# EAGLE library part ATTINY806 (library innove-microcontrollers)
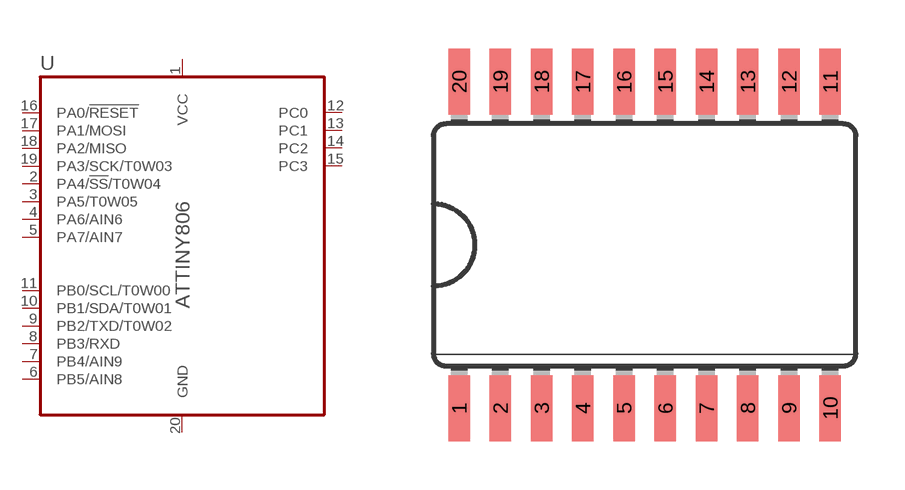
[diagram p9: symbol with the pads of SO20L; footprint SO20L]

Designator prefix U

## ATTINY806-SF  [SO20L]
1  VCC  pwr
2  PA4/!SS!/T0W04
3  PA5/T0W05
4  PA6/AIN6
5  PA7/AIN7
6  PB5/AIN8
7  PB4/AIN9
8  PB3/RXD
9  PB2/TXD/T0W02
10  PB1/SDA/T0W01
11  PB0/SCL/T0W00
12  PC0
13  PC1
14  PC2
15  PC3
16  PA0/!RESET
17  PA1/MOSI
18  PA2/MISO
19  PA3/SCK/T0W03
20  GND  pwr

## Footprint SO20L (pad centres in mm)
Small Outline Package
smd 0.66 x 2.032: 1 -5.715,-5.029; 2 -4.445,-5.029; 3 -3.175,-5.029; 4 -1.905,-5.029; 5 -0.635,-5.029; 6 0.635,-5.029; 7 1.905,-5.029; 8 3.175,-5.029; 9 4.445,-5.029; 10 5.715,-5.029; 11 5.715,5.029; 12 4.445,5.029; 13 3.175,5.029; 14 1.905,5.029; 15 0.635,5.029; 16 -0.635,5.029; 17 -1.905,5.029; 18 -3.175,5.029; 19 -4.445,5.029; 20 -5.715,5.029